# Altium footprint library PcbLib.PcbLib: 6 footprints
Each footprint in its own frame and in the unit in brackets; x right, y up, seen from the top. Pads: shape width x height; smd on the part's side, far side on the other; paste and mask are expansions set on the pad; w line width, h text height; cw(c..) or ccw(c..) is an arc to the next point about the centre after c.
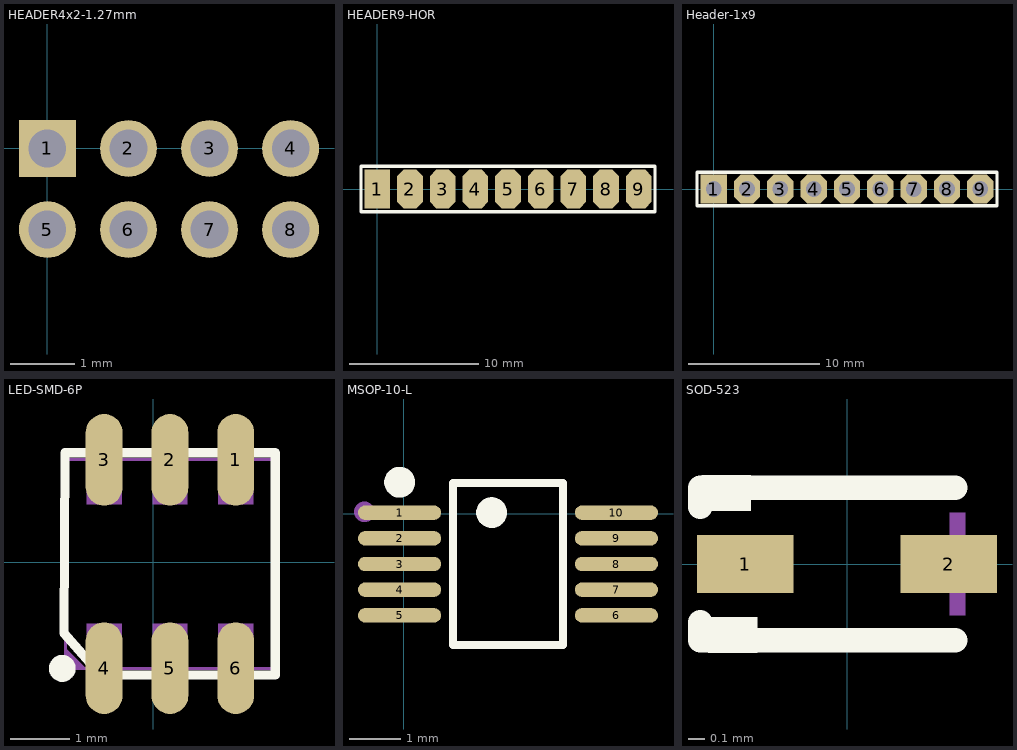
[diagram p0: the footprints below, top view; thin cyan lines are the x and y axes]

## HEADER4x2-1.27mm [mm]
pads (8):
  rect 0.89x0.89 hole 0.59: 1(0,0)
  round 0.89 hole 0.59: 2(1.27,0) 3(2.54,0) 4(3.81,0) 5(0,-1.27) 6(1.27,-1.27) 7(2.54,-1.27) 8(3.81,-1.27)

## HEADER9-HOR [mm]
pads (9):
  rect 2x3 smd: 1(0,0)
  oct 2x3 smd: 2(2.54,0) 3(5.08,0) 4(7.62,0) 5(10.16,0) 6(12.7,0) 7(15.24,0) 8(17.78,0) 9(20.32,0)
Top Overlay:
  lines w0.254: -1.27,-1.778 21.59,-1.778 21.59,1.778 -1.27,1.778 -1.27,-1.778
3D body "HEADER 1X9.STEP": height 1.25, standoff -1.25, extent -1.27,-10.088 21.59,1.452

## Header-1x9 [mm]
pads (9):
  rect 2x2.2 hole 1.2: 1(0,0)
  oct 2x2.2 hole 1.2: 2(2.54,0) 3(5.08,0) 4(7.62,0) 5(10.16,0) 6(12.7,0) 7(15.24,0) 8(17.78,0) 9(20.32,0)
Top Overlay:
  lines w0.254: -1.27,-1.27 -1.27,1.27 21.59,1.27 21.59,-1.27 -1.27,-1.27
3D body "HEADER 1X9.STEP": height 1.25, standoff -1.25, extent -1.295,-10.349 21.565,1.191

## LED-SMD-6P [mm]
pads (6):
  oval 0.616x1.533 smd: 1(1.377,1.709) 2(0.277,1.709) 3(-0.823,1.709) 4(-0.823,-1.774) 5(0.277,-1.774) 6(1.377,-1.774)
Top Overlay:
  circle w0.254: c-1.524,-1.778 r0.098
  lines w0.152: -1.492,-1.19 -0.874,-1.891 2.037,-1.891 2.037,1.827 -1.48,1.827 -1.492,-1.19
Mechanical 6:
  drawing of 180 lines, arcs and shapes, not listed
Mechanical 15:
  region: -1.113,1.718 -1.113,0.968 -0.533,0.968 -0.533,1.718
  region: -0.013,1.718 -0.013,0.968 0.567,0.968 0.567,1.718
  region: 1.087,1.718 1.087,0.968 1.667,0.968 1.667,1.718
  region: 1.087,-1.782 1.087,-1.032 1.667,-1.032 1.667,-1.782
  region: -0.013,-1.782 -0.013,-1.032 0.567,-1.032 0.567,-1.782
  region: -1.113,-1.782 -1.113,-1.032 -0.533,-1.032 -0.533,-1.782
  region: -1.413,-1.782 -1.413,-1.757 -1.448,-1.722 -1.498,-1.722 -1.533,-1.757 -1.533,-1.782 -1.533,-1.807 -1.498,-1.842 -1.448,-1.842 -1.413,-1.807
  lines w0.051: -1.473,-1.782 2.027,-1.782 2.027,1.718 -1.473,1.718 -1.473,-1.782
3D body "User Library-3535RGB-1.STEP": height 2.8, standoff 0, extent -1.48,-1.857 2.02,1.823

## MSOP-10-L [mm]
pads (10):
  oval 1.62x0.28 smd: 1(-0.079,0.02) 2(-0.079,-0.481) 3(-0.079,-0.98) 4(-0.079,-1.481) 5(-0.079,-1.98) 6(4.141,-1.98) 7(4.141,-1.481) 8(4.141,-0.98) 9(4.141,-0.481) 10(4.141,0.02)
Top Overlay:
  circle w0.3: c-0.079,0.612 r0.15
  circle w0.3: c1.712,0.02 r0.15
  lines w0.152: 0.96,-2.557 0.96,0.596 3.102,0.596 3.102,-2.557 0.96,-2.557
Mechanical 6:
  circle w0.2: c-0.763,0.036 r0.1
3D body "MSOP-10.step": height 1.15, standoff 0, extent -0.392,-2.5 4.508,0.5

## SOD-523 [mm]
pads (2):
  rect 0.6x0.36 smd: 1(-0.635,0) 2(0.635,0)
Top Overlay:
  region: -0.6,0.552 -0.6,0.332 -0.905,0.332 -0.905,0.552
  region: -0.56,-0.552 -0.56,-0.332 -0.864,-0.332 -0.864,-0.552
  lines w0.152: -0.914,-0.363 -0.914,-0.476 -0.676,-0.476 0.676,-0.476 ; -0.914,0.356 -0.914,0.476 -0.676,0.476 0.676,0.476
Mechanical 6:
  region: -0.887,0.055 -0.887,-0.041 -0.503,-0.041 -0.503,0.055
  region: 0.88,0.048 0.88,-0.048 0.496,-0.048 0.496,0.048
  region: 0.736,0.32 0.736,-0.32 0.64,-0.32 0.64,0.32
3D body "User Library-SOD-523F.STEP": height 0.7, standoff 0, extent -0.8,-0.399 0.8,0.399